# Altium schematic symbol library Schlib1.SchLib: 1 symbol
Pins are listed as number, name and electrical type; pins without a type are passive.

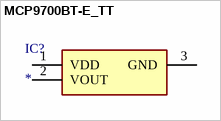
[diagram p0: symbol MCP9700BT-E_TT]

## MCP9700BT-E_TT
designator IC?
Integrated Circuit; Manufacturer_Name: Microchip; Manufacturer_Part_Number: MCP9700BT-E/TT; Description: Board Mount Temperature Sensors HIGH ACCURACY LINEAR ACTIVE THERMISTOR (TM) IC (10MV/0C); Datasheet Link: https://www.arrow.com/en/products/mcp9700bt-ett/microchip-technology?region=nac; Height: 1.12mm; Mouser Part Number: 494-MCP9700BT-E/TT; Mouser Price/Stock: https://www.mouser.co.uk/ProductDetail/Microchip-Technology/MCP9700BT-E-TT?qs=Y0Uzf4wQF3lsXhjo%252Bepn1A%3D%3D; Arrow Part Number: MCP9700BT-E/TT; Arrow Price/Stock: https://www.arrow.com/en/products/mcp9700bt-ett/microchip-technology?region=nac
footprint SOT95P237X112-3N
pins: 1 VDD, 2 VOUT, 3 GND